# Altium integrated library Inductor 22uH.IntLib: 360 symbols (part 3 of 7)
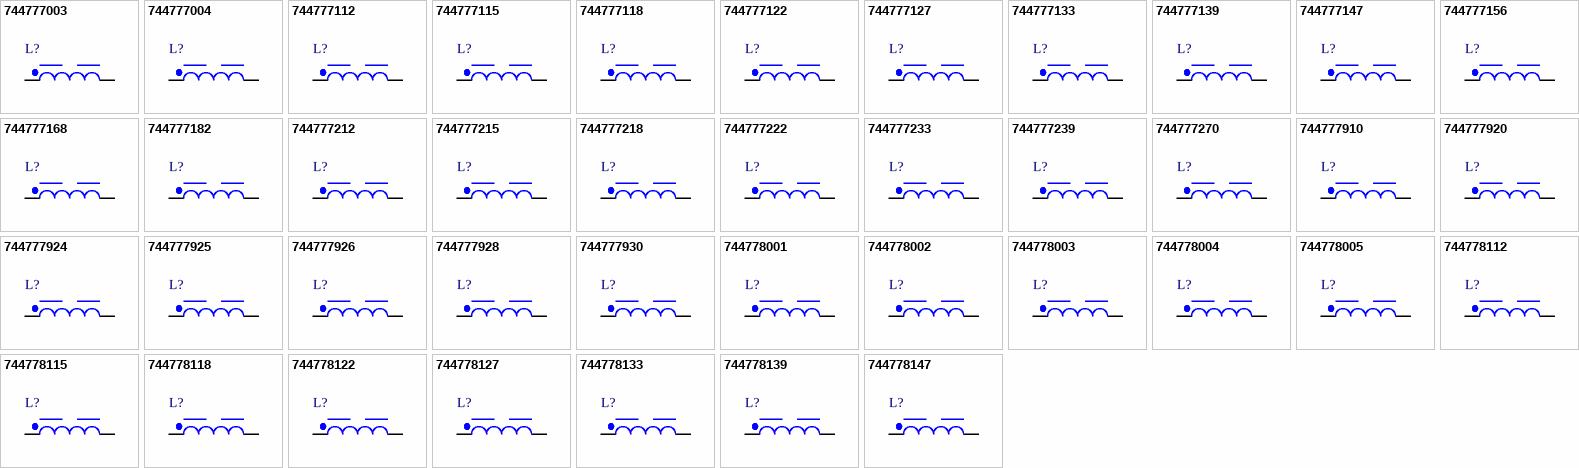
[diagram p10: symbols 744777003 to 744778147]

## 744778004
designator L?, comment 4.7 μH, 2.32 A  (value not drawn)
WE-PD SMT Power Inductor, size 7332, 4.7 μH, 2.32 A, 60 mΩ; Manufacturer Part Number: 744778004; Manufacturer: Wurth Elektronik; Case/Size Code: 7332; DC Resistance: 42 mΩ; DC Resistance Max: 60 mΩ; Inductance: 4.7 μH; Rated Current: 2.32 A; Saturation Current: 4.2 A; Self Resonant Frequency: 45 MHz; Type: Standard; Category: Power Inductors; Match Code: WE-PD; ComponentLink1Description: Website Link; ComponentLink1URL: https://www.we-online.com/redexpert/article/744778004?ad; ComponentLink2Description: Datasheet Link; ComponentLink2URL: https://www.we-online.com/redexpert/spec/744778004?ad; Mount: Surface Mount; Min Operating Temperature: -40 °C; Max Operating Temperature: 125 °C; Packaging: Tape and Reel; Length: 7.3 mm; Width: 7.3 mm; Height: 3.2 mm
footprint WE-PD_7332
simulation model 7332_744778004_4.7u
pins: 1, 2

## 744778005
designator L?, comment 0.54 μH, 5.6 A  (value not drawn)
WE-PD SMT Power Inductor, size 7332, 0.54 μH, 5.6 A, 8.5 mΩ; Manufacturer Part Number: 744778005; Manufacturer: Wurth Elektronik; Case/Size Code: 7332; DC Resistance: 7.2 mΩ; DC Resistance Max: 8.5 mΩ; Inductance: 0.54 μH; Rated Current: 5.6 A; Saturation Current: 9 A; Self Resonant Frequency: 155 MHz; Type: Standard; Category: Power Inductors; Match Code: WE-PD; ComponentLink1Description: Website Link; ComponentLink1URL: https://www.we-online.com/redexpert/article/744778005?ad; ComponentLink2Description: Datasheet Link; ComponentLink2URL: https://www.we-online.com/redexpert/spec/744778005?ad; Mount: Surface Mount; Min Operating Temperature: -40 °C; Max Operating Temperature: 125 °C; Packaging: Tape and Reel; Length: 7.3 mm; Width: 7.3 mm; Height: 3.2 mm
footprint WE-PD_7332
simulation model 7332_744778005_0.54u
pins: 1, 2

## 744778112
designator L?, comment 12 μH, 1.73 A  (value not drawn)
WE-PD SMT Power Inductor, size 7332, 12 μH, 1.73 A, 98 mΩ; Manufacturer Part Number: 744778112; Manufacturer: Wurth Elektronik; Case/Size Code: 7332; DC Resistance: 76 mΩ; DC Resistance Max: 98 mΩ; Inductance: 12 μH; Rated Current: 1.73 A; Saturation Current: 2.15 A; Self Resonant Frequency: 27 MHz; Type: Standard; Category: Power Inductors; Match Code: WE-PD; ComponentLink1Description: Website Link; ComponentLink1URL: https://www.we-online.com/redexpert/article/744778112?ad; ComponentLink2Description: Datasheet Link; ComponentLink2URL: https://www.we-online.com/redexpert/spec/744778112?ad; Mount: Surface Mount; Min Operating Temperature: -40 °C; Max Operating Temperature: 125 °C; Packaging: Tape and Reel; Length: 7.3 mm; Width: 7.3 mm; Height: 3.2 mm
footprint WE-PD_7332
simulation model 7332_744778112_12u
pins: 1, 2

## 744778115
designator L?, comment 15 μH, 1.51 A  (value not drawn)
WE-PD SMT Power Inductor, size 7332, 15 μH, 1.51 A, 130 mΩ; Manufacturer Part Number: 744778115; Manufacturer: Wurth Elektronik; Case/Size Code: 7332; DC Resistance: 100 mΩ; DC Resistance Max: 130 mΩ; Inductance: 15 μH; Rated Current: 1.51 A; Saturation Current: 1.75 A; Self Resonant Frequency: 26 MHz; Type: Standard; Category: Power Inductors; Match Code: WE-PD; ComponentLink1Description: Website Link; ComponentLink1URL: https://www.we-online.com/redexpert/article/744778115?ad; ComponentLink2Description: Datasheet Link; ComponentLink2URL: https://www.we-online.com/redexpert/spec/744778115?ad; Mount: Surface Mount; Min Operating Temperature: -40 °C; Max Operating Temperature: 125 °C; Packaging: Tape and Reel; Length: 7.3 mm; Width: 7.3 mm; Height: 3.2 mm
footprint WE-PD_7332
simulation model 7332_744778115_15u
pins: 1, 2

## 744778118
designator L?, comment 18 μH, 1.41 A  (value not drawn)
WE-PD SMT Power Inductor, size 7332, 18 μH, 1.41 A, 140 mΩ; Manufacturer Part Number: 744778118; Manufacturer: Wurth Elektronik; Case/Size Code: 7332; DC Resistance: 114 mΩ; DC Resistance Max: 140 mΩ; Inductance: 18 μH; Rated Current: 1.41 A; Saturation Current: 1.7 A; Self Resonant Frequency: 24 MHz; Type: Standard; Category: Power Inductors; Match Code: WE-PD; ComponentLink1Description: Website Link; ComponentLink1URL: https://www.we-online.com/redexpert/article/744778118?ad; ComponentLink2Description: Datasheet Link; ComponentLink2URL: https://www.we-online.com/redexpert/spec/744778118?ad; Mount: Surface Mount; Min Operating Temperature: -40 °C; Max Operating Temperature: 125 °C; Packaging: Tape and Reel; Length: 7.3 mm; Width: 7.3 mm; Height: 3.2 mm
footprint WE-PD_7332
simulation model 7332_744778118_18u
pins: 1, 2

## 744778122
designator L?, comment 22 μH, 1.38 A  (value not drawn)
WE-PD SMT Power Inductor, size 7332, 22 μH, 1.38 A, 190 mΩ; Manufacturer Part Number: 744778122; Manufacturer: Wurth Elektronik; Case/Size Code: 7332; DC Resistance: 119 mΩ; DC Resistance Max: 190 mΩ; Inductance: 22 μH; Rated Current: 1.38 A; Saturation Current: 1.4 A; Self Resonant Frequency: 20 MHz; Type: Standard; Category: Power Inductors; Match Code: WE-PD; ComponentLink1Description: Website Link; ComponentLink1URL: https://www.we-online.com/redexpert/article/744778122?ad; ComponentLink2Description: Datasheet Link; ComponentLink2URL: https://www.we-online.com/redexpert/spec/744778122?ad; Mount: Surface Mount; Min Operating Temperature: -40 °C; Max Operating Temperature: 125 °C; Packaging: Tape and Reel; Length: 7.3 mm; Width: 7.3 mm; Height: 3.2 mm
footprint WE-PD_7332
simulation model 7332_744778122_22u
pins: 1, 2

## 744778127
designator L?, comment 27 μH, 1.27 A  (value not drawn)
WE-PD SMT Power Inductor, size 7332, 27 μH, 1.27 A, 240 mΩ; Manufacturer Part Number: 744778127; Manufacturer: Wurth Elektronik; Case/Size Code: 7332; DC Resistance: 140 mΩ; DC Resistance Max: 240 mΩ; Inductance: 27 μH; Rated Current: 1.27 A; Saturation Current: 1.3 A; Self Resonant Frequency: 18 MHz; Type: Standard; Category: Power Inductors; Match Code: WE-PD; ComponentLink1Description: Website Link; ComponentLink1URL: https://www.we-online.com/redexpert/article/744778127?ad; ComponentLink2Description: Datasheet Link; ComponentLink2URL: https://www.we-online.com/redexpert/spec/744778127?ad; Mount: Surface Mount; Min Operating Temperature: -40 °C; Max Operating Temperature: 125 °C; Packaging: Tape and Reel; Length: 7.3 mm; Width: 7.3 mm; Height: 3.2 mm
footprint WE-PD_7332
simulation model 7332_744778127_27u
pins: 1, 2

## 744778133
designator L?, comment 33 μH, 1.22 A  (value not drawn)
WE-PD SMT Power Inductor, size 7332, 33 μH, 1.22 A, 240 mΩ; Manufacturer Part Number: 744778133; Manufacturer: Wurth Elektronik; Case/Size Code: 7332; DC Resistance: 153 mΩ; DC Resistance Max: 240 mΩ; Inductance: 33 μH; Rated Current: 1.22 A; Saturation Current: 1.15 A; Self Resonant Frequency: 16 MHz; Type: Standard; Category: Power Inductors; Match Code: WE-PD; ComponentLink1Description: Website Link; ComponentLink1URL: https://www.we-online.com/redexpert/article/744778133?ad; ComponentLink2Description: Datasheet Link; ComponentLink2URL: https://www.we-online.com/redexpert/spec/744778133?ad; Mount: Surface Mount; Min Operating Temperature: -40 °C; Max Operating Temperature: 125 °C; Packaging: Tape and Reel; Length: 7.3 mm; Width: 7.3 mm; Height: 3.2 mm
footprint WE-PD_7332
simulation model 7332_744778133_33u
pins: 1, 2

## 744778139
designator L?, comment 39 μH, 1.03 A  (value not drawn)
WE-PD SMT Power Inductor, size 7332, 39 μH, 1.03 A, 320 mΩ; Manufacturer Part Number: 744778139; Manufacturer: Wurth Elektronik; Case/Size Code: 7332; DC Resistance: 214 mΩ; DC Resistance Max: 320 mΩ; Inductance: 39 μH; Rated Current: 1.03 A; Saturation Current: 1.1 A; Self Resonant Frequency: 14 MHz; Type: Standard; Category: Power Inductors; Match Code: WE-PD; ComponentLink1Description: Website Link; ComponentLink1URL: https://www.we-online.com/redexpert/article/744778139?ad; ComponentLink2Description: Datasheet Link; ComponentLink2URL: https://www.we-online.com/redexpert/spec/744778139?ad; Mount: Surface Mount; Min Operating Temperature: -40 °C; Max Operating Temperature: 125 °C; Packaging: Tape and Reel; Length: 7.3 mm; Width: 7.3 mm; Height: 3.2 mm
footprint WE-PD_7332
simulation model 7332_744778139_39u
pins: 1, 2

## 744778147
designator L?, comment 47 μH, 0.85 A  (value not drawn)
WE-PD SMT Power Inductor, size 7332, 47 μH, 0.85 A, 360 mΩ; Manufacturer Part Number: 744778147; Manufacturer: Wurth Elektronik; Case/Size Code: 7332; DC Resistance: 315 mΩ; DC Resistance Max: 360 mΩ; Inductance: 47 μH; Rated Current: 0.85 A; Saturation Current: 1 A; Self Resonant Frequency: 13.5 MHz; Type: Standard; Category: Power Inductors; Match Code: WE-PD; ComponentLink1Description: Website Link; ComponentLink1URL: https://www.we-online.com/redexpert/article/744778147?ad; ComponentLink2Description: Datasheet Link; ComponentLink2URL: https://www.we-online.com/redexpert/spec/744778147?ad; Mount: Surface Mount; Min Operating Temperature: -40 °C; Max Operating Temperature: 125 °C; Packaging: Tape and Reel; Length: 7.3 mm; Width: 7.3 mm; Height: 3.2 mm
footprint WE-PD_7332
simulation model 7332_744778147_47u
pins: 1, 2

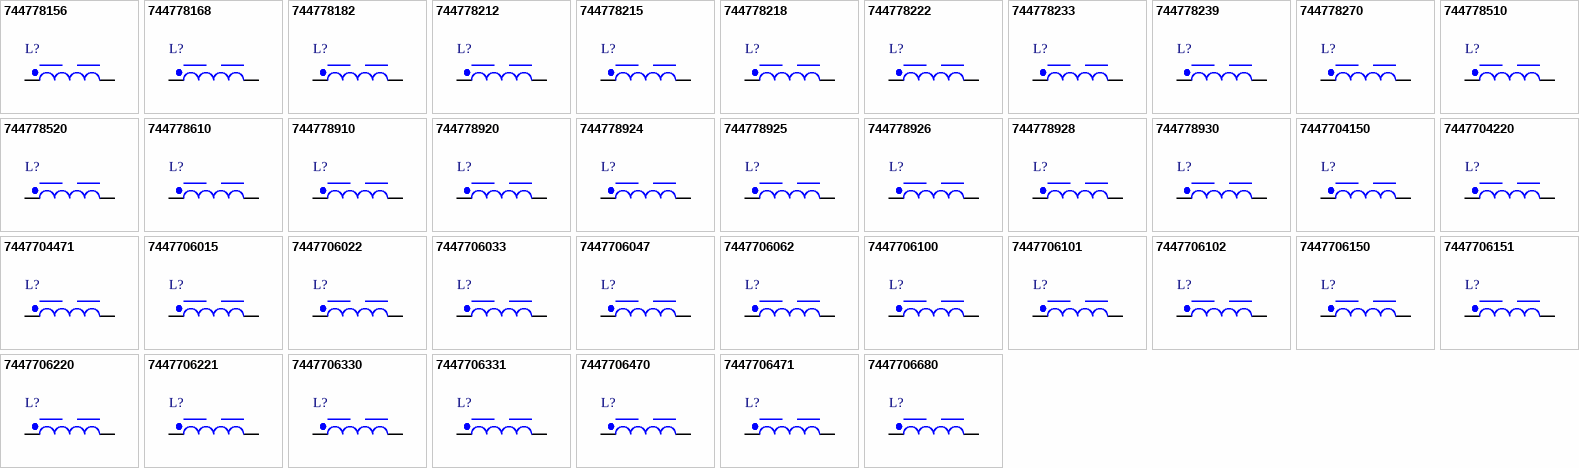
[diagram p3: symbols 744778156 to 7447706680]

## 744778156
designator L?, comment 56 μH, 0.84 A  (value not drawn)
WE-PD SMT Power Inductor, size 7332, 56 μH, 0.84 A, 470 mΩ; Manufacturer Part Number: 744778156; Manufacturer: Wurth Elektronik; Case/Size Code: 7332; DC Resistance: 322 mΩ; DC Resistance Max: 470 mΩ; Inductance: 56 μH; Rated Current: 0.84 A; Saturation Current: 0.88 A; Self Resonant Frequency: 12.5 MHz; Type: Standard; Category: Power Inductors; Match Code: WE-PD; ComponentLink1Description: Website Link; ComponentLink1URL: https://www.we-online.com/redexpert/article/744778156?ad; ComponentLink2Description: Datasheet Link; ComponentLink2URL: https://www.we-online.com/redexpert/spec/744778156?ad; Mount: Surface Mount; Min Operating Temperature: -40 °C; Max Operating Temperature: 125 °C; Packaging: Tape and Reel; Length: 7.3 mm; Width: 7.3 mm; Height: 3.2 mm
footprint WE-PD_7332
simulation model 7332_744778156_56u
pins: 1, 2

## 744778168
designator L?, comment 68 μH, 0.74 A  (value not drawn)
WE-PD SMT Power Inductor, size 7332, 68 μH, 0.74 A, 520 mΩ; Manufacturer Part Number: 744778168; Manufacturer: Wurth Elektronik; Case/Size Code: 7332; DC Resistance: 420 mΩ; DC Resistance Max: 520 mΩ; Inductance: 68 μH; Rated Current: 0.74 A; Saturation Current: 0.84 A; Self Resonant Frequency: 11.5 MHz; Type: Standard; Category: Power Inductors; Match Code: WE-PD; ComponentLink1Description: Website Link; ComponentLink1URL: https://www.we-online.com/redexpert/article/744778168?ad; ComponentLink2Description: Datasheet Link; ComponentLink2URL: https://www.we-online.com/redexpert/spec/744778168?ad; Mount: Surface Mount; Min Operating Temperature: -40 °C; Max Operating Temperature: 125 °C; Packaging: Tape and Reel; Length: 7.3 mm; Width: 7.3 mm; Height: 3.2 mm
footprint WE-PD_7332
simulation model 7332_744778168_68u
pins: 1, 2

## 744778182
designator L?, comment 82 μH, 0.69 A  (value not drawn)
WE-PD SMT Power Inductor, size 7332, 82 μH, 0.69 A, 690 mΩ; Manufacturer Part Number: 744778182; Manufacturer: Wurth Elektronik; Case/Size Code: 7332; DC Resistance: 480 mΩ; DC Resistance Max: 690 mΩ; Inductance: 82 μH; Rated Current: 0.69 A; Saturation Current: 0.78 A; Self Resonant Frequency: 9.8 MHz; Type: Standard; Category: Power Inductors; Match Code: WE-PD; ComponentLink1Description: Website Link; ComponentLink1URL: https://www.we-online.com/redexpert/article/744778182?ad; ComponentLink2Description: Datasheet Link; ComponentLink2URL: https://www.we-online.com/redexpert/spec/744778182?ad; Mount: Surface Mount; Min Operating Temperature: -40 °C; Max Operating Temperature: 125 °C; Packaging: Tape and Reel; Length: 7.3 mm; Width: 7.3 mm; Height: 3.2 mm
footprint WE-PD_7332
simulation model 7332_744778182_82u
pins: 1, 2

## 744778212
designator L?, comment 120 μH, 0.6 A  (value not drawn)
WE-PD SMT Power Inductor, size 7332, 120 μH, 0.6 A, 890 mΩ; Manufacturer Part Number: 744778212; Manufacturer: Wurth Elektronik; Case/Size Code: 7332; DC Resistance: 630 mΩ; DC Resistance Max: 890 mΩ; Inductance: 120 μH; Rated Current: 0.6 A; Saturation Current: 0.68 A; Self Resonant Frequency: 8.5 MHz; Type: Standard; Category: Power Inductors; Match Code: WE-PD; ComponentLink1Description: Website Link; ComponentLink1URL: https://www.we-online.com/redexpert/article/744778212?ad; ComponentLink2Description: Datasheet Link; ComponentLink2URL: https://www.we-online.com/redexpert/spec/744778212?ad; Mount: Surface Mount; Min Operating Temperature: -40 °C; Max Operating Temperature: 125 °C; Packaging: Tape and Reel; Length: 7.3 mm; Width: 7.3 mm; Height: 3.2 mm
footprint WE-PD_7332
simulation model 7332_744778212_120u
pins: 1, 2

## 744778215
designator L?, comment 150 μH, 0.56 A  (value not drawn)
WE-PD SMT Power Inductor, size 7332, 150 μH, 0.56 A, 1270 mΩ; Manufacturer Part Number: 744778215; Manufacturer: Wurth Elektronik; Case/Size Code: 7332; DC Resistance: 720 mΩ; DC Resistance Max: 1270 mΩ; Inductance: 150 μH; Rated Current: 0.56 A; Saturation Current: 0.53 A; Self Resonant Frequency: 7.2 MHz; Type: Standard; Category: Power Inductors; Match Code: WE-PD; ComponentLink1Description: Website Link; ComponentLink1URL: https://www.we-online.com/redexpert/article/744778215?ad; ComponentLink2Description: Datasheet Link; ComponentLink2URL: https://www.we-online.com/redexpert/spec/744778215?ad; Mount: Surface Mount; Min Operating Temperature: -40 °C; Max Operating Temperature: 125 °C; Packaging: Tape and Reel; Length: 7.3 mm; Width: 7.3 mm; Height: 3.2 mm
footprint WE-PD_7332
simulation model 7332_744778215_150u
pins: 1, 2

## 744778218
designator L?, comment 180 μH, 0.49 A  (value not drawn)
WE-PD SMT Power Inductor, size 7332, 180 μH, 0.49 A, 1450 mΩ; Manufacturer Part Number: 744778218; Manufacturer: Wurth Elektronik; Case/Size Code: 7332; DC Resistance: 960 mΩ; DC Resistance Max: 1450 mΩ; Inductance: 180 μH; Rated Current: 0.49 A; Saturation Current: 0.5 A; Self Resonant Frequency: 7 MHz; Type: Standard; Category: Power Inductors; Match Code: WE-PD; ComponentLink1Description: Website Link; ComponentLink1URL: https://www.we-online.com/redexpert/article/744778218?ad; ComponentLink2Description: Datasheet Link; ComponentLink2URL: https://www.we-online.com/redexpert/spec/744778218?ad; Mount: Surface Mount; Min Operating Temperature: -40 °C; Max Operating Temperature: 125 °C; Packaging: Tape and Reel; Length: 7.3 mm; Width: 7.3 mm; Height: 3.2 mm
footprint WE-PD_7332
simulation model 7332_744778218_180u
pins: 1, 2

## 744778222
designator L?, comment 220 μH, 0.43 A  (value not drawn)
WE-PD SMT Power Inductor, size 7332, 220 μH, 0.43 A, 1650 mΩ; Manufacturer Part Number: 744778222; Manufacturer: Wurth Elektronik; Case/Size Code: 7332; DC Resistance: 1220 mΩ; DC Resistance Max: 1650 mΩ; Inductance: 220 μH; Rated Current: 0.43 A; Saturation Current: 0.42 A; Self Resonant Frequency: 6 MHz; Type: Standard; Category: Power Inductors; Match Code: WE-PD; ComponentLink1Description: Website Link; ComponentLink1URL: https://www.we-online.com/redexpert/article/744778222?ad; ComponentLink2Description: Datasheet Link; ComponentLink2URL: https://www.we-online.com/redexpert/spec/744778222?ad; Mount: Surface Mount; Min Operating Temperature: -40 °C; Max Operating Temperature: 125 °C; Packaging: Tape and Reel; Length: 7.3 mm; Width: 7.3 mm; Height: 3.2 mm
footprint WE-PD_7332
simulation model 7332_744778222_220u
pins: 1, 2

## 744778233
designator L?, comment 330 μH, 0.32 A  (value not drawn)
WE-PD SMT Power Inductor, size 7332, 330 μH, 0.32 A, 2620 mΩ; Manufacturer Part Number: 744778233; Manufacturer: Wurth Elektronik; Case/Size Code: 7332; DC Resistance: 2280 mΩ; DC Resistance Max: 2620 mΩ; Inductance: 330 μH; Rated Current: 0.32 A; Saturation Current: 0.35 A; Self Resonant Frequency: 4.8 MHz; Type: Standard; Category: Power Inductors; Match Code: WE-PD; ComponentLink1Description: Website Link; ComponentLink1URL: https://www.we-online.com/redexpert/article/744778233?ad; ComponentLink2Description: Datasheet Link; ComponentLink2URL: https://www.we-online.com/redexpert/spec/744778233?ad; Mount: Surface Mount; Min Operating Temperature: -40 °C; Max Operating Temperature: 125 °C; Packaging: Tape and Reel; Length: 7.3 mm; Width: 7.3 mm; Height: 3.2 mm
footprint WE-PD_7332
simulation model 7332_744778233_330u
pins: 1, 2

## 744778239
designator L?, comment 390 μH, 0.3 A  (value not drawn)
WE-PD SMT Power Inductor, size 7332, 390 μH, 0.3 A, 2940 mΩ; Manufacturer Part Number: 744778239; Manufacturer: Wurth Elektronik; Case/Size Code: 7332; DC Resistance: 2490 mΩ; DC Resistance Max: 2940 mΩ; Inductance: 390 μH; Rated Current: 0.3 A; Saturation Current: 0.34 A; Self Resonant Frequency: 4.4 MHz; Type: Standard; Category: Power Inductors; Match Code: WE-PD; ComponentLink1Description: Website Link; ComponentLink1URL: https://www.we-online.com/redexpert/article/744778239?ad; ComponentLink2Description: Datasheet Link; ComponentLink2URL: https://www.we-online.com/redexpert/spec/744778239?ad; Mount: Surface Mount; Min Operating Temperature: -40 °C; Max Operating Temperature: 125 °C; Packaging: Tape and Reel; Length: 7.3 mm; Width: 7.3 mm; Height: 3.2 mm
footprint WE-PD_7332
simulation model 7332_744778239_390u
pins: 1, 2

## 744778270
designator L?, comment 270 μH, 0.4 A  (value not drawn)
WE-PD SMT Power Inductor, size 7332, 270 μH, 0.4 A, 2310 mΩ; Manufacturer Part Number: 744778270; Manufacturer: Wurth Elektronik; Case/Size Code: 7332; DC Resistance: 1440 mΩ; DC Resistance Max: 2310 mΩ; Inductance: 270 μH; Rated Current: 0.4 A; Saturation Current: 0.39 A; Self Resonant Frequency: 5.2 MHz; Type: Standard; Category: Power Inductors; Match Code: WE-PD; ComponentLink1Description: Website Link; ComponentLink1URL: https://www.we-online.com/redexpert/article/744778270?ad; ComponentLink2Description: Datasheet Link; ComponentLink2URL: https://www.we-online.com/redexpert/spec/744778270?ad; Mount: Surface Mount; Min Operating Temperature: -40 °C; Max Operating Temperature: 125 °C; Packaging: Tape and Reel; Length: 7.3 mm; Width: 7.3 mm; Height: 3.2 mm
footprint WE-PD_7332
simulation model 7332_744778270_270u
pins: 1, 2

## 744778510
designator L?, comment 10 μH, 1.9 A  (value not drawn)
WE-PD SMT Power Inductor, size 6033R, 10 μH, 1.9 A, 125 mΩ; Manufacturer Part Number: 744778510; Manufacturer: Wurth Elektronik; DC Resistance: 100 mΩ; DC Resistance Max: 125 mΩ; Inductance: 10 μH; Rated Current: 1.9 A; Saturation Current: 1.6 A; Self Resonant Frequency: 37 MHz; Type: Robust; Category: Power Inductors; Match Code: WE-PD; ComponentLink1Description: Website Link; ComponentLink1URL: https://www.we-online.com/redexpert/article/744778510?ad; ComponentLink2Description: Datasheet Link; ComponentLink2URL: https://www.we-online.com/redexpert/spec/744778510?ad; Mount: Surface Mount; Min Operating Temperature: -40 °C; Max Operating Temperature: 125 °C; Packaging: Tape and Reel; Case/Size Code: 6033R; Length: 5.9 mm; Width: 6.2 mm; Height: 3.3 mm
footprint WE-PD_6033R
simulation model 6033_744778510_10u
pins: 1, 2

## 744778520
designator L?, comment 100 μH, 0.65 A  (value not drawn)
WE-PD SMT Power Inductor, size 6033R, 100 μH, 0.65 A, 1060 mΩ; Manufacturer Part Number: 744778520; Manufacturer: Wurth Elektronik; DC Resistance: 950 mΩ; DC Resistance Max: 1060 mΩ; Inductance: 100 μH; Rated Current: 0.65 A; Saturation Current: 0.5 A; Self Resonant Frequency: 11 MHz; Type: Robust; Category: Power Inductors; Match Code: WE-PD; ComponentLink1Description: Website Link; ComponentLink1URL: https://www.we-online.com/redexpert/article/744778520?ad; ComponentLink2Description: Datasheet Link; ComponentLink2URL: https://www.we-online.com/redexpert/spec/744778520?ad; Mount: Surface Mount; Min Operating Temperature: -40 °C; Max Operating Temperature: 125 °C; Packaging: Tape and Reel; Case/Size Code: 6033R; Length: 5.9 mm; Width: 6.2 mm; Height: 3.3 mm
footprint WE-PD_6033R
simulation model 6033_744778520_100u
pins: 1, 2

## 744778610
designator L?, comment 10 μH, 2.1 A  (value not drawn)
WE-PD SMT Power Inductor, size 6050R, 10 μH, 2.1 A, 88 mΩ; Manufacturer Part Number: 744778610; Manufacturer: Wurth Elektronik; DC Resistance: 74 mΩ; DC Resistance Max: 88 mΩ; Inductance: 10 μH; Rated Current: 2.1 A; Saturation Current: 1.8 A; Self Resonant Frequency: 35 MHz; Type: Robust; Category: Power Inductors; Match Code: WE-PD; ComponentLink1Description: Website Link; ComponentLink1URL: https://www.we-online.com/redexpert/article/744778610?ad; ComponentLink2Description: Datasheet Link; ComponentLink2URL: https://www.we-online.com/redexpert/spec/744778610?ad; Mount: Surface Mount; Min Operating Temperature: -40 °C; Max Operating Temperature: 125 °C; Packaging: Tape and Reel; Case/Size Code: 6050R; Length: 5.9 mm; Width: 6.2 mm; Height: 5.1 mm
footprint WE-PD_6050R
simulation model 6050_744778610_10u
pins: 1, 2

## 744778910
designator L?, comment 10 μH, 1.83 A  (value not drawn)
WE-PD SMT Power Inductor, size 7332R, 10 μH, 1.83 A, 72 mΩ; Manufacturer Part Number: 744778910; Manufacturer: Wurth Elektronik; DC Resistance: 64 mΩ; DC Resistance Max: 72 mΩ; Inductance: 10 μH; Rated Current: 1.83 A; Saturation Current: 2.2 A; Self Resonant Frequency: 32 MHz; Type: Robust; Category: Power Inductors; Match Code: WE-PD; ComponentLink1Description: Website Link; ComponentLink1URL: https://www.we-online.com/redexpert/article/744778910?ad; ComponentLink2Description: Datasheet Link; ComponentLink2URL: https://www.we-online.com/redexpert/spec/744778910?ad; Mount: Surface Mount; Min Operating Temperature: -40 °C; Max Operating Temperature: 125 °C; Packaging: Tape and Reel; Case/Size Code: 7332R; Length: 7.3 mm; Width: 7.3 mm; Height: 3.2 mm
footprint WE-PD_7332R
simulation model 7332_744778910_10u
pins: 1, 2

## 744778920
designator L?, comment 100 μH, 0.62 A  (value not drawn)
WE-PD SMT Power Inductor, size 7332R, 100 μH, 0.62 A, 790 mΩ; Manufacturer Part Number: 744778920; Manufacturer: Wurth Elektronik; DC Resistance: 585 mΩ; DC Resistance Max: 790 mΩ; Inductance: 100 μH; Rated Current: 0.62 A; Saturation Current: 0.76 A; Self Resonant Frequency: 9 MHz; Type: Robust; Category: Power Inductors; Match Code: WE-PD; ComponentLink1Description: Website Link; ComponentLink1URL: https://www.we-online.com/redexpert/article/744778920?ad; ComponentLink2Description: Datasheet Link; ComponentLink2URL: https://www.we-online.com/redexpert/spec/744778920?ad; Mount: Surface Mount; Min Operating Temperature: -40 °C; Max Operating Temperature: 125 °C; Packaging: Tape and Reel; Case/Size Code: 7332R; Length: 7.3 mm; Width: 7.3 mm; Height: 3.2 mm
footprint WE-PD_7332R
simulation model 7332_744778920_100u
pins: 1, 2

## 744778924
designator L?, comment 470 μH, 0.3 A  (value not drawn)
WE-PD SMT Power Inductor, size 7332R, 470 μH, 0.3 A, 4180 mΩ; Manufacturer Part Number: 744778924; Manufacturer: Wurth Elektronik; DC Resistance: 2600 mΩ; DC Resistance Max: 4180 mΩ; Inductance: 470 μH; Rated Current: 0.3 A; Saturation Current: 0.31 A; Self Resonant Frequency: 4 MHz; Type: Robust; Category: Power Inductors; Match Code: WE-PD; ComponentLink1Description: Website Link; ComponentLink1URL: https://www.we-online.com/redexpert/article/744778924?ad; ComponentLink2Description: Datasheet Link; ComponentLink2URL: https://www.we-online.com/redexpert/spec/744778924?ad; Mount: Surface Mount; Min Operating Temperature: -40 °C; Max Operating Temperature: 125 °C; Packaging: Tape and Reel; Case/Size Code: 7332R; Length: 7.3 mm; Width: 7.3 mm; Height: 3.2 mm
footprint WE-PD_7332R
simulation model 7332_744778924_470u
pins: 1, 2

## 744778925
designator L?, comment 560 μH, 0.27 A  (value not drawn)
WE-PD SMT Power Inductor, size 7332R, 560 μH, 0.27 A, 4670 mΩ; Manufacturer Part Number: 744778925; Manufacturer: Wurth Elektronik; DC Resistance: 3000 mΩ; DC Resistance Max: 4670 mΩ; Inductance: 560 μH; Rated Current: 0.27 A; Saturation Current: 0.3 A; Self Resonant Frequency: 3.7 MHz; Type: Robust; Category: Power Inductors; Match Code: WE-PD; ComponentLink1Description: Website Link; ComponentLink1URL: https://www.we-online.com/redexpert/article/744778925?ad; ComponentLink2Description: Datasheet Link; ComponentLink2URL: https://www.we-online.com/redexpert/spec/744778925?ad; Mount: Surface Mount; Min Operating Temperature: -40 °C; Max Operating Temperature: 125 °C; Packaging: Tape and Reel; Case/Size Code: 7332R; Length: 7.3 mm; Width: 7.3 mm; Height: 3.2 mm
footprint WE-PD_7332R
simulation model 7332_744778925_560u
pins: 1, 2

## 744778926
designator L?, comment 680 μH, 0.22 A  (value not drawn)
WE-PD SMT Power Inductor, size 7332R, 680 μH, 0.22 A, 5730 mΩ; Manufacturer Part Number: 744778926; Manufacturer: Wurth Elektronik; DC Resistance: 4500 mΩ; DC Resistance Max: 5730 mΩ; Inductance: 680 μH; Rated Current: 0.22 A; Self Resonant Frequency: 3.4 MHz; Type: Robust; Category: Power Inductors; Match Code: WE-PD; ComponentLink1Description: Website Link; ComponentLink1URL: https://www.we-online.com/redexpert/article/744778926?ad; ComponentLink2Description: Datasheet Link; ComponentLink2URL: https://www.we-online.com/redexpert/spec/744778926?ad; Mount: Surface Mount; Min Operating Temperature: -40 °C; Max Operating Temperature: 125 °C; Packaging: Tape and Reel; Case/Size Code: 7332R; Length: 7.3 mm; Width: 7.3 mm; Height: 3.2 mm; Saturation Current: 0.22 A
footprint WE-PD_7332R
simulation model 7332_744778926_680u
pins: 1, 2

## 744778928
designator L?, comment 820 μH, 0.21 A  (value not drawn)
WE-PD SMT Power Inductor, size 7332R, 820 μH, 0.21 A, 6540 mΩ; Manufacturer Part Number: 744778928; Manufacturer: Wurth Elektronik; DC Resistance: 4990 mΩ; DC Resistance Max: 6540 mΩ; Inductance: 820 μH; Rated Current: 0.21 A; Saturation Current: 0.2 A; Self Resonant Frequency: 2.8 MHz; Type: Robust; Category: Power Inductors; Match Code: WE-PD; ComponentLink1Description: Website Link; ComponentLink1URL: https://www.we-online.com/redexpert/article/744778928?ad; ComponentLink2Description: Datasheet Link; ComponentLink2URL: https://www.we-online.com/redexpert/spec/744778928?ad; Mount: Surface Mount; Min Operating Temperature: -40 °C; Max Operating Temperature: 125 °C; Packaging: Tape and Reel; Case/Size Code: 7332R; Length: 7.3 mm; Width: 7.3 mm; Height: 3.2 mm
footprint WE-PD_7332R
simulation model 7332_744778928_820u
pins: 1, 2

## 744778930
designator L?, comment 1000 μH, 0.2 A  (value not drawn)
WE-PD SMT Power Inductor, size 7332R, 1000 μH, 0.2 A, 9440 mΩ; Manufacturer Part Number: 744778930; Manufacturer: Wurth Elektronik; DC Resistance: 5570 mΩ; DC Resistance Max: 9440 mΩ; Inductance: 1000 μH; Rated Current: 0.2 A; Saturation Current: 0.18 A; Self Resonant Frequency: 2.6 MHz; Type: Robust; Category: Power Inductors; Match Code: WE-PD; ComponentLink1Description: Website Link; ComponentLink1URL: https://www.we-online.com/redexpert/article/744778930?ad; ComponentLink2Description: Datasheet Link; ComponentLink2URL: https://www.we-online.com/redexpert/spec/744778930?ad; Mount: Surface Mount; Min Operating Temperature: -40 °C; Max Operating Temperature: 125 °C; Packaging: Tape and Reel; Case/Size Code: 7332R; Length: 7.3 mm; Width: 7.3 mm; Height: 3.2 mm
footprint WE-PD_7332R
simulation model 7332_744778930_1000u
pins: 1, 2

## 7447704150
designator L?, comment 15 μH, 7 A  (value not drawn)
WE-PD SMT Power Inductor, size 1510, 15 μH, 7 A, 26 mΩ; Manufacturer Part Number: 7447704150; Manufacturer: Wurth Elektronik; Case/Size Code: 1510; DC Resistance: 19.5 mΩ; DC Resistance Max: 26 mΩ; Inductance: 15 μH; Rated Current: 7 A; Saturation Current: 8.8 A; Self Resonant Frequency: 20.5 MHz; Type: Standard; Category: Power Inductors; Match Code: WE-PD; ComponentLink1Description: Website Link; ComponentLink1URL: https://www.we-online.com/redexpert/article/7447704150?ad; ComponentLink2Description: Datasheet Link; ComponentLink2URL: https://www.we-online.com/redexpert/spec/7447704150?ad; Mount: Surface Mount; Min Operating Temperature: -40 °C; Max Operating Temperature: 125 °C; Packaging: Tape and Reel; Length: 15 mm; Width: 15 mm; Height: 10 mm
footprint WE-PD_1510
simulation model 1510_7447704150_15u
pins: 1, 2

## 7447704220
designator L?, comment 22 μH, 6.2 A  (value not drawn)
WE-PD SMT Power Inductor, size 1510, 22 μH, 6.2 A, 33 mΩ; Manufacturer Part Number: 7447704220; Manufacturer: Wurth Elektronik; Case/Size Code: 1510; DC Resistance: 25 mΩ; DC Resistance Max: 33 mΩ; Inductance: 22 μH; Rated Current: 6.2 A; Saturation Current: 7.2 A; Self Resonant Frequency: 11.5 MHz; Type: Standard; Category: Power Inductors; Match Code: WE-PD; ComponentLink1Description: Website Link; ComponentLink1URL: https://www.we-online.com/redexpert/article/7447704220?ad; ComponentLink2Description: Datasheet Link; ComponentLink2URL: https://www.we-online.com/redexpert/spec/7447704220?ad; Mount: Surface Mount; Min Operating Temperature: -40 °C; Max Operating Temperature: 125 °C; Packaging: Tape and Reel; Length: 15 mm; Width: 15 mm; Height: 10 mm
footprint WE-PD_1510
simulation model 1510_7447704220_22u
pins: 1, 2

## 7447704471
designator L?, comment 470 μH, 1.3 A  (value not drawn)
WE-PD SMT Power Inductor, size 1510, 470 μH, 1.3 A, 500 mΩ; Manufacturer Part Number: 7447704471; Manufacturer: Wurth Elektronik; Case/Size Code: 1510; DC Resistance: 425 mΩ; DC Resistance Max: 500 mΩ; Inductance: 470 μH; Rated Current: 1.3 A; Saturation Current: 1.7 A; Self Resonant Frequency: 1.7 MHz; Type: Standard; Category: Power Inductors; Match Code: WE-PD; ComponentLink1Description: Website Link; ComponentLink1URL: https://www.we-online.com/redexpert/article/7447704471?ad; ComponentLink2Description: Datasheet Link; ComponentLink2URL: https://www.we-online.com/redexpert/spec/7447704471?ad; Mount: Surface Mount; Min Operating Temperature: -40 °C; Max Operating Temperature: 125 °C; Packaging: Tape and Reel; Length: 15 mm; Width: 15 mm; Height: 10 mm
footprint WE-PD_1510
simulation model 1510_7447704471_470u
pins: 1, 2

## 7447706015
designator L?, comment 1.5 μH, 11.5 A  (value not drawn)
WE-PD SMT Power Inductor, size 1260P, 1.5 μH, 11.5 A, 7 mΩ; Manufacturer Part Number: 7447706015; Manufacturer: Wurth Elektronik; DC Resistance: 5 mΩ; DC Resistance Max: 7 mΩ; Inductance: 1.5 μH; Rated Current: 11.5 A; Saturation Current: 20 A; Self Resonant Frequency: 50.5 MHz; Type: Performance; Category: Power Inductors; Match Code: WE-PD; ComponentLink1Description: Website Link; ComponentLink1URL: https://www.we-online.com/redexpert/article/7447706015?ad; ComponentLink2Description: Datasheet Link; ComponentLink2URL: https://www.we-online.com/redexpert/spec/7447706015?ad; Mount: Surface Mount; Min Operating Temperature: -40 °C; Max Operating Temperature: 150 °C; Packaging: Tape and Reel; Case/Size Code: 1260P; Length: 12 mm; Width: 12 mm; Height: 6 mm
footprint WE-PD_1260P
simulation model 1260_7447706015_1.5u
pins: 1, 2

## 7447706022
designator L?, comment 2.2 μH, 10.2 A  (value not drawn)
WE-PD SMT Power Inductor, size 1260P, 2.2 μH, 10.2 A, 8.5 mΩ; Manufacturer Part Number: 7447706022; Manufacturer: Wurth Elektronik; DC Resistance: 6.2 mΩ; DC Resistance Max: 8.5 mΩ; Inductance: 2.2 μH; Rated Current: 10.2 A; Saturation Current: 16.5 A; Self Resonant Frequency: 40.2 MHz; Type: Performance; Category: Power Inductors; Match Code: WE-PD; ComponentLink1Description: Website Link; ComponentLink1URL: https://www.we-online.com/redexpert/article/7447706022?ad; ComponentLink2Description: Datasheet Link; ComponentLink2URL: https://www.we-online.com/redexpert/spec/7447706022?ad; Mount: Surface Mount; Min Operating Temperature: -40 °C; Max Operating Temperature: 150 °C; Packaging: Tape and Reel; Case/Size Code: 1260P; Length: 12 mm; Width: 12 mm; Height: 6 mm
footprint WE-PD_1260P
simulation model 1260_7447706022_2.2u
pins: 1, 2

## 7447706033
designator L?, comment 3.3 μH, 9.2 A  (value not drawn)
WE-PD SMT Power Inductor, size 1260P, 3.3 μH, 9.2 A, 10 mΩ; Manufacturer Part Number: 7447706033; Manufacturer: Wurth Elektronik; DC Resistance: 7.5 mΩ; DC Resistance Max: 10 mΩ; Inductance: 3.3 μH; Rated Current: 9.2 A; Saturation Current: 13.5 A; Self Resonant Frequency: 32.2 MHz; Type: Performance; Category: Power Inductors; Match Code: WE-PD; ComponentLink1Description: Website Link; ComponentLink1URL: https://www.we-online.com/redexpert/article/7447706033?ad; ComponentLink2Description: Datasheet Link; ComponentLink2URL: https://www.we-online.com/redexpert/spec/7447706033?ad; Mount: Surface Mount; Min Operating Temperature: -40 °C; Max Operating Temperature: 150 °C; Packaging: Tape and Reel; Case/Size Code: 1260P; Length: 12 mm; Width: 12 mm; Height: 6 mm
footprint WE-PD_1260P
simulation model 1260_7447706033_3.3u
pins: 1, 2

## 7447706047
designator L?, comment 4.7 μH, 8.1 A  (value not drawn)
WE-PD SMT Power Inductor, size 1260P, 4.7 μH, 8.1 A, 12 mΩ; Manufacturer Part Number: 7447706047; Manufacturer: Wurth Elektronik; DC Resistance: 9 mΩ; DC Resistance Max: 12 mΩ; Inductance: 4.7 μH; Rated Current: 8.1 A; Saturation Current: 11.5 A; Self Resonant Frequency: 27.4 MHz; Type: Performance; Category: Power Inductors; Match Code: WE-PD; ComponentLink1Description: Website Link; ComponentLink1URL: https://www.we-online.com/redexpert/article/7447706047?ad; ComponentLink2Description: Datasheet Link; ComponentLink2URL: https://www.we-online.com/redexpert/spec/7447706047?ad; Mount: Surface Mount; Min Operating Temperature: -40 °C; Max Operating Temperature: 150 °C; Packaging: Tape and Reel; Case/Size Code: 1260P; Length: 12 mm; Width: 12 mm; Height: 6 mm
footprint WE-PD_1260P
simulation model 1260_7447706047_4.7u
pins: 1, 2

## 7447706062
designator L?, comment 6.2 μH, 7 A  (value not drawn)
WE-PD SMT Power Inductor, size 1260P, 6.2 μH, 7 A, 15 mΩ; Manufacturer Part Number: 7447706062; Manufacturer: Wurth Elektronik; DC Resistance: 12 mΩ; DC Resistance Max: 15 mΩ; Inductance: 6.2 μH; Rated Current: 7 A; Saturation Current: 10 A; Self Resonant Frequency: 22.5 MHz; Type: Performance; Category: Power Inductors; Match Code: WE-PD; ComponentLink1Description: Website Link; ComponentLink1URL: https://www.we-online.com/redexpert/article/7447706062?ad; ComponentLink2Description: Datasheet Link; ComponentLink2URL: https://www.we-online.com/redexpert/spec/7447706062?ad; Mount: Surface Mount; Min Operating Temperature: -40 °C; Max Operating Temperature: 150 °C; Packaging: Tape and Reel; Case/Size Code: 1260P; Length: 12 mm; Width: 12 mm; Height: 6 mm
footprint WE-PD_1260P
simulation model 1260_7447706062_6.2u
pins: 1, 2

## 7447706100
designator L?, comment 10 μH, 5.8 A  (value not drawn)
WE-PD SMT Power Inductor, size 1260P, 10 μH, 5.8 A, 20 mΩ; Manufacturer Part Number: 7447706100; Manufacturer: Wurth Elektronik; DC Resistance: 16.3 mΩ; DC Resistance Max: 20 mΩ; Inductance: 10 μH; Rated Current: 5.8 A; Saturation Current: 7.8 A; Self Resonant Frequency: 17.6 MHz; Type: Performance; Category: Power Inductors; Match Code: WE-PD; ComponentLink1Description: Website Link; ComponentLink1URL: https://www.we-online.com/redexpert/article/7447706100?ad; ComponentLink2Description: Datasheet Link; ComponentLink2URL: https://www.we-online.com/redexpert/spec/7447706100?ad; Mount: Surface Mount; Min Operating Temperature: -40 °C; Max Operating Temperature: 150 °C; Packaging: Tape and Reel; Case/Size Code: 1260P; Length: 12 mm; Width: 12 mm; Height: 6 mm
footprint WE-PD_1260P
simulation model 1260_7447706100_10u
pins: 1, 2

## 7447706101
designator L?, comment 100 μH, 1.9 A  (value not drawn)
WE-PD SMT Power Inductor, size 1260P, 100 μH, 1.9 A, 140 mΩ; Manufacturer Part Number: 7447706101; Manufacturer: Wurth Elektronik; DC Resistance: 122 mΩ; DC Resistance Max: 140 mΩ; Inductance: 100 μH; Rated Current: 1.9 A; Saturation Current: 2.5 A; Self Resonant Frequency: 5.2 MHz; Type: Performance; Category: Power Inductors; Match Code: WE-PD; ComponentLink1Description: Website Link; ComponentLink1URL: https://www.we-online.com/redexpert/article/7447706101?ad; ComponentLink2Description: Datasheet Link; ComponentLink2URL: https://www.we-online.com/redexpert/spec/7447706101?ad; Mount: Surface Mount; Min Operating Temperature: -40 °C; Max Operating Temperature: 150 °C; Packaging: Tape and Reel; Case/Size Code: 1260P; Length: 12 mm; Width: 12 mm; Height: 6 mm
footprint WE-PD_1260P
simulation model 1260_7447706101_100u
pins: 1, 2

## 7447706102
designator L?, comment 1000 μH, 0.6 A  (value not drawn)
WE-PD SMT Power Inductor, size 1260P, 1000 μH, 0.6 A, 1250 mΩ; Manufacturer Part Number: 7447706102; Manufacturer: Wurth Elektronik; DC Resistance: 1150 mΩ; DC Resistance Max: 1250 mΩ; Inductance: 1000 μH; Rated Current: 0.6 A; Saturation Current: 0.8 A; Self Resonant Frequency: 1.45 MHz; Type: Performance; Category: Power Inductors; Match Code: WE-PD; ComponentLink1Description: Website Link; ComponentLink1URL: https://www.we-online.com/redexpert/article/7447706102?ad; ComponentLink2Description: Datasheet Link; ComponentLink2URL: https://www.we-online.com/redexpert/spec/7447706102?ad; Mount: Surface Mount; Min Operating Temperature: -40 °C; Max Operating Temperature: 150 °C; Packaging: Tape and Reel; Case/Size Code: 1260P; Length: 12 mm; Width: 12 mm; Height: 6 mm
footprint WE-PD_1260P
simulation model 1260_7447706102_1000u
pins: 1, 2

## 7447706150
designator L?, comment 15 μH, 4.7 A  (value not drawn)
WE-PD SMT Power Inductor, size 1260P, 15 μH, 4.7 A, 28 mΩ; Manufacturer Part Number: 7447706150; Manufacturer: Wurth Elektronik; DC Resistance: 22.9 mΩ; DC Resistance Max: 28 mΩ; Inductance: 15 μH; Rated Current: 4.7 A; Saturation Current: 6.4 A; Self Resonant Frequency: 13.9 MHz; Type: Performance; Category: Power Inductors; Match Code: WE-PD; ComponentLink1Description: Website Link; ComponentLink1URL: https://www.we-online.com/redexpert/article/7447706150?ad; ComponentLink2Description: Datasheet Link; ComponentLink2URL: https://www.we-online.com/redexpert/spec/7447706150?ad; Mount: Surface Mount; Min Operating Temperature: -40 °C; Max Operating Temperature: 150 °C; Packaging: Tape and Reel; Case/Size Code: 1260P; Length: 12 mm; Width: 12 mm; Height: 6 mm
footprint WE-PD_1260P
simulation model 1260_7447706150_15u
pins: 1, 2

## 7447706151
designator L?, comment 150 μH, 1.55 A  (value not drawn)
WE-PD SMT Power Inductor, size 1260P, 150 μH, 1.55 A, 200 mΩ; Manufacturer Part Number: 7447706151; Manufacturer: Wurth Elektronik; DC Resistance: 175 mΩ; DC Resistance Max: 200 mΩ; Inductance: 150 μH; Rated Current: 1.55 A; Saturation Current: 2 A; Self Resonant Frequency: 4.2 MHz; Type: Performance; Category: Power Inductors; Match Code: WE-PD; ComponentLink1Description: Website Link; ComponentLink1URL: https://www.we-online.com/redexpert/article/7447706151?ad; ComponentLink2Description: Datasheet Link; ComponentLink2URL: https://www.we-online.com/redexpert/spec/7447706151?ad; Mount: Surface Mount; Min Operating Temperature: -40 °C; Max Operating Temperature: 150 °C; Packaging: Tape and Reel; Case/Size Code: 1260P; Length: 12 mm; Width: 12 mm; Height: 6 mm
footprint WE-PD_1260P
simulation model 1260_7447706151_150u
pins: 1, 2

## 7447706220
designator L?, comment 22 μH, 3.7 A  (value not drawn)
WE-PD SMT Power Inductor, size 1260P, 22 μH, 3.7 A, 41 mΩ; Manufacturer Part Number: 7447706220; Manufacturer: Wurth Elektronik; DC Resistance: 34.3 mΩ; DC Resistance Max: 41 mΩ; Inductance: 22 μH; Rated Current: 3.7 A; Saturation Current: 5.2 A; Self Resonant Frequency: 11 MHz; Type: Performance; Category: Power Inductors; Match Code: WE-PD; ComponentLink1Description: Website Link; ComponentLink1URL: https://www.we-online.com/redexpert/article/7447706220?ad; ComponentLink2Description: Datasheet Link; ComponentLink2URL: https://www.we-online.com/redexpert/spec/7447706220?ad; Mount: Surface Mount; Min Operating Temperature: -40 °C; Max Operating Temperature: 150 °C; Packaging: Tape and Reel; Case/Size Code: 1260P; Length: 12 mm; Width: 12 mm; Height: 6 mm
footprint WE-PD_1260P
simulation model 1260_7447706220_22u
pins: 1, 2

## 7447706221
designator L?, comment 220 μH, 1.25 A  (value not drawn)
WE-PD SMT Power Inductor, size 1260P, 220 μH, 1.25 A, 310 mΩ; Manufacturer Part Number: 7447706221; Manufacturer: Wurth Elektronik; DC Resistance: 273 mΩ; DC Resistance Max: 310 mΩ; Inductance: 220 μH; Rated Current: 1.25 A; Saturation Current: 1.7 A; Self Resonant Frequency: 3.3 MHz; Type: Performance; Category: Power Inductors; Match Code: WE-PD; ComponentLink1Description: Website Link; ComponentLink1URL: https://www.we-online.com/redexpert/article/7447706221?ad; ComponentLink2Description: Datasheet Link; ComponentLink2URL: https://www.we-online.com/redexpert/spec/7447706221?ad; Mount: Surface Mount; Min Operating Temperature: -40 °C; Max Operating Temperature: 150 °C; Packaging: Tape and Reel; Case/Size Code: 1260P; Length: 12 mm; Width: 12 mm; Height: 6 mm
footprint WE-PD_1260P
simulation model 1260_7447706221_220u
pins: 1, 2

## 7447706330
designator L?, comment 33 μH, 3 A  (value not drawn)
WE-PD SMT Power Inductor, size 1260P, 33 μH, 3 A, 60 mΩ; Manufacturer Part Number: 7447706330; Manufacturer: Wurth Elektronik; DC Resistance: 50.8 mΩ; DC Resistance Max: 60 mΩ; Inductance: 33 μH; Rated Current: 3 A; Saturation Current: 4.2 A; Self Resonant Frequency: 9.2 MHz; Type: Performance; Category: Power Inductors; Match Code: WE-PD; ComponentLink1Description: Website Link; ComponentLink1URL: https://www.we-online.com/redexpert/article/7447706330?ad; ComponentLink2Description: Datasheet Link; ComponentLink2URL: https://www.we-online.com/redexpert/spec/7447706330?ad; Mount: Surface Mount; Min Operating Temperature: -40 °C; Max Operating Temperature: 150 °C; Packaging: Tape and Reel; Case/Size Code: 1260P; Length: 12 mm; Width: 12 mm; Height: 6 mm
footprint WE-PD_1260P
simulation model 1260_7447706330_33u
pins: 1, 2

## 7447706331
designator L?, comment 330 μH, 1.05 A  (value not drawn)
WE-PD SMT Power Inductor, size 1260P, 330 μH, 1.05 A, 450 mΩ; Manufacturer Part Number: 7447706331; Manufacturer: Wurth Elektronik; DC Resistance: 395 mΩ; DC Resistance Max: 450 mΩ; Inductance: 330 μH; Rated Current: 1.05 A; Saturation Current: 1.4 A; Self Resonant Frequency: 2.6 MHz; Type: Performance; Category: Power Inductors; Match Code: WE-PD; ComponentLink1Description: Website Link; ComponentLink1URL: https://www.we-online.com/redexpert/article/7447706331?ad; ComponentLink2Description: Datasheet Link; ComponentLink2URL: https://www.we-online.com/redexpert/spec/7447706331?ad; Mount: Surface Mount; Min Operating Temperature: -40 °C; Max Operating Temperature: 150 °C; Packaging: Tape and Reel; Case/Size Code: 1260P; Length: 12 mm; Width: 12 mm; Height: 6 mm
footprint WE-PD_1260P
simulation model 1260_7447706331_330u
pins: 1, 2

## 7447706470
designator L?, comment 47 μH, 2.7 A  (value not drawn)
WE-PD SMT Power Inductor, size 1260P, 47 μH, 2.7 A, 72 mΩ; Manufacturer Part Number: 7447706470; Manufacturer: Wurth Elektronik; DC Resistance: 61.2 mΩ; DC Resistance Max: 72 mΩ; Inductance: 47 μH; Rated Current: 2.7 A; Saturation Current: 3.6 A; Self Resonant Frequency: 7.5 MHz; Type: Performance; Category: Power Inductors; Match Code: WE-PD; ComponentLink1Description: Website Link; ComponentLink1URL: https://www.we-online.com/redexpert/article/7447706470?ad; ComponentLink2Description: Datasheet Link; ComponentLink2URL: https://www.we-online.com/redexpert/spec/7447706470?ad; Mount: Surface Mount; Min Operating Temperature: -40 °C; Max Operating Temperature: 150 °C; Packaging: Tape and Reel; Case/Size Code: 1260P; Length: 12 mm; Width: 12 mm; Height: 6 mm
footprint WE-PD_1260P
simulation model 1260_7447706470_47u
pins: 1, 2

## 7447706471
designator L?, comment 470 μH, 0.86 A  (value not drawn)
WE-PD SMT Power Inductor, size 1260P, 470 μH, 0.86 A, 610 mΩ; Manufacturer Part Number: 7447706471; Manufacturer: Wurth Elektronik; DC Resistance: 543 mΩ; DC Resistance Max: 610 mΩ; Inductance: 470 μH; Rated Current: 0.86 A; Saturation Current: 1.15 A; Self Resonant Frequency: 2.3 MHz; Type: Performance; Category: Power Inductors; Match Code: WE-PD; ComponentLink1Description: Website Link; ComponentLink1URL: https://www.we-online.com/redexpert/article/7447706471?ad; ComponentLink2Description: Datasheet Link; ComponentLink2URL: https://www.we-online.com/redexpert/spec/7447706471?ad; Mount: Surface Mount; Min Operating Temperature: -40 °C; Max Operating Temperature: 150 °C; Packaging: Tape and Reel; Case/Size Code: 1260P; Length: 12 mm; Width: 12 mm; Height: 6 mm
footprint WE-PD_1260P
simulation model 1260_7447706471_470u
pins: 1, 2

## 7447706680
designator L?, comment 68 μH, 2.3 A  (value not drawn)
WE-PD SMT Power Inductor, size 1260P, 68 μH, 2.3 A, 97 mΩ; Manufacturer Part Number: 7447706680; Manufacturer: Wurth Elektronik; DC Resistance: 82 mΩ; DC Resistance Max: 97 mΩ; Inductance: 68 μH; Rated Current: 2.3 A; Saturation Current: 3 A; Self Resonant Frequency: 6.5 MHz; Type: Performance; Category: Power Inductors; Match Code: WE-PD; ComponentLink1Description: Website Link; ComponentLink1URL: https://www.we-online.com/redexpert/article/7447706680?ad; ComponentLink2Description: Datasheet Link; ComponentLink2URL: https://www.we-online.com/redexpert/spec/7447706680?ad; Mount: Surface Mount; Min Operating Temperature: -40 °C; Max Operating Temperature: 150 °C; Packaging: Tape and Reel; Case/Size Code: 1260P; Length: 12 mm; Width: 12 mm; Height: 6 mm
footprint WE-PD_1260P
simulation model 1260_7447706680_68u
pins: 1, 2

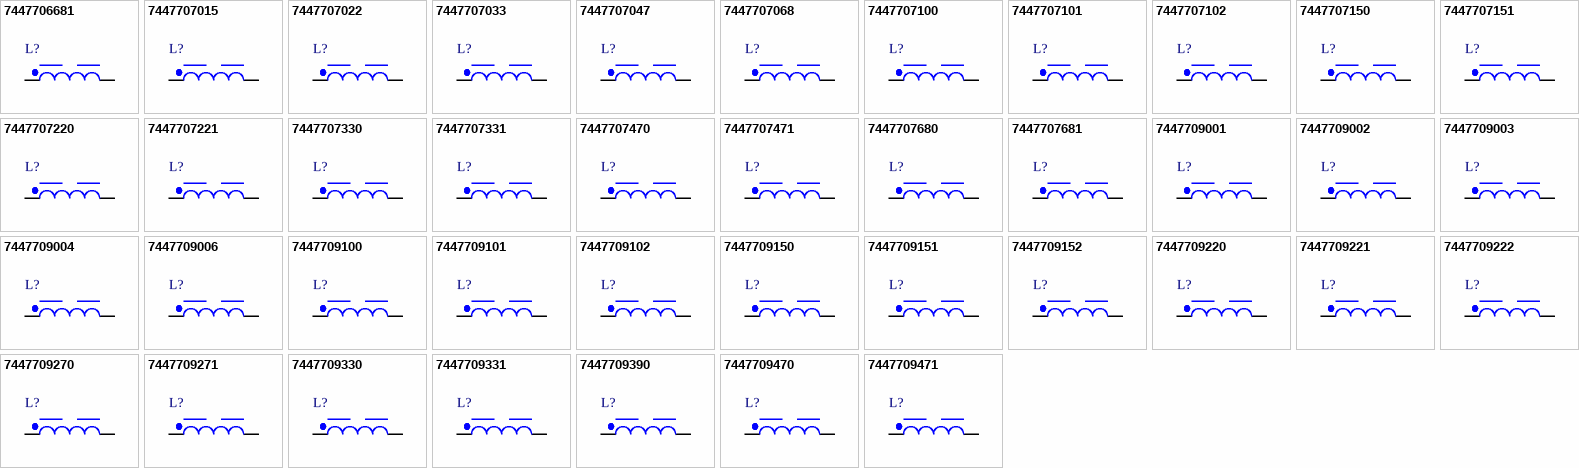
[diagram p4: symbols 7447706681 to 7447709471]

## 7447706681
designator L?, comment 680 μH, 0.72 A  (value not drawn)
WE-PD SMT Power Inductor, size 1260P, 680 μH, 0.72 A, 860 mΩ; Manufacturer Part Number: 7447706681; Manufacturer: Wurth Elektronik; DC Resistance: 780 mΩ; DC Resistance Max: 860 mΩ; Inductance: 680 μH; Rated Current: 0.72 A; Saturation Current: 0.95 A; Self Resonant Frequency: 1.8 MHz; Type: Performance; Category: Power Inductors; Match Code: WE-PD; ComponentLink1Description: Website Link; ComponentLink1URL: https://www.we-online.com/redexpert/article/7447706681?ad; ComponentLink2Description: Datasheet Link; ComponentLink2URL: https://www.we-online.com/redexpert/spec/7447706681?ad; Mount: Surface Mount; Min Operating Temperature: -40 °C; Max Operating Temperature: 150 °C; Packaging: Tape and Reel; Case/Size Code: 1260P; Length: 12 mm; Width: 12 mm; Height: 6 mm
footprint WE-PD_1260P
simulation model 1260_7447706681_680u
pins: 1, 2

## 7447707015
designator L?, comment 1.5 μH, 12 A  (value not drawn)
WE-PD SMT Power Inductor, size 1280P, 1.5 μH, 12 A, 5.5 mΩ; Manufacturer Part Number: 7447707015; Manufacturer: Wurth Elektronik; DC Resistance: 4.6 mΩ; DC Resistance Max: 5.5 mΩ; Inductance: 1.5 μH; Rated Current: 12 A; Saturation Current: 24 A; Self Resonant Frequency: 49.2 MHz; Type: Performance; Category: Power Inductors; Match Code: WE-PD; ComponentLink1Description: Website Link; ComponentLink1URL: https://www.we-online.com/redexpert/article/7447707015?ad; ComponentLink2Description: Datasheet Link; ComponentLink2URL: https://www.we-online.com/redexpert/spec/7447707015?ad; Mount: Surface Mount; Min Operating Temperature: -40 °C; Max Operating Temperature: 150 °C; Packaging: Tape and Reel; Case/Size Code: 1280P; Length: 12 mm; Width: 12 mm; Height: 8 mm
footprint WE-PD_1280P
simulation model 1280_7447707015_1.5u
pins: 1, 2

## 7447707022
designator L?, comment 2.2 μH, 11 A  (value not drawn)
WE-PD SMT Power Inductor, size 1280P, 2.2 μH, 11 A, 6.8 mΩ; Manufacturer Part Number: 7447707022; Manufacturer: Wurth Elektronik; DC Resistance: 5.7 mΩ; DC Resistance Max: 6.8 mΩ; Inductance: 2.2 μH; Rated Current: 11 A; Saturation Current: 20.5 A; Self Resonant Frequency: 41.7 MHz; Type: Performance; Category: Power Inductors; Match Code: WE-PD; ComponentLink1Description: Website Link; ComponentLink1URL: https://www.we-online.com/redexpert/article/7447707022?ad; ComponentLink2Description: Datasheet Link; ComponentLink2URL: https://www.we-online.com/redexpert/spec/7447707022?ad; Mount: Surface Mount; Min Operating Temperature: -40 °C; Max Operating Temperature: 150 °C; Packaging: Tape and Reel; Case/Size Code: 1280P; Length: 12 mm; Width: 12 mm; Height: 8 mm
footprint WE-PD_1280P
simulation model 1280_7447707022_2.2u
pins: 1, 2

## 7447707033
designator L?, comment 3.3 μH, 9.4 A  (value not drawn)
WE-PD SMT Power Inductor, size 1280P, 3.3 μH, 9.4 A, 9 mΩ; Manufacturer Part Number: 7447707033; Manufacturer: Wurth Elektronik; DC Resistance: 7.5 mΩ; DC Resistance Max: 9 mΩ; Inductance: 3.3 μH; Rated Current: 9.4 A; Saturation Current: 17.5 A; Self Resonant Frequency: 32.3 MHz; Type: Performance; Category: Power Inductors; Match Code: WE-PD; ComponentLink1Description: Website Link; ComponentLink1URL: https://www.we-online.com/redexpert/article/7447707033?ad; ComponentLink2Description: Datasheet Link; ComponentLink2URL: https://www.we-online.com/redexpert/spec/7447707033?ad; Mount: Surface Mount; Min Operating Temperature: -40 °C; Max Operating Temperature: 150 °C; Packaging: Tape and Reel; Case/Size Code: 1280P; Length: 12 mm; Width: 12 mm; Height: 8 mm
footprint WE-PD_1280P
simulation model 1280_7447707033_3.3u
pins: 1, 2

## 7447707047
designator L?, comment 4.7 μH, 8.5 A  (value not drawn)
WE-PD SMT Power Inductor, size 1280P, 4.7 μH, 8.5 A, 10 mΩ; Manufacturer Part Number: 7447707047; Manufacturer: Wurth Elektronik; DC Resistance: 8.5 mΩ; DC Resistance Max: 10 mΩ; Inductance: 4.7 μH; Rated Current: 8.5 A; Saturation Current: 15.5 A; Self Resonant Frequency: 28.8 MHz; Type: Performance; Category: Power Inductors; Match Code: WE-PD; ComponentLink1Description: Website Link; ComponentLink1URL: https://www.we-online.com/redexpert/article/7447707047?ad; ComponentLink2Description: Datasheet Link; ComponentLink2URL: https://www.we-online.com/redexpert/spec/7447707047?ad; Mount: Surface Mount; Min Operating Temperature: -40 °C; Max Operating Temperature: 150 °C; Packaging: Tape and Reel; Case/Size Code: 1280P; Length: 12 mm; Width: 12 mm; Height: 8 mm
footprint WE-PD_1280P
simulation model 1280_7447707047_4.7u
pins: 1, 2